# Altium footprint library Semiconductors.PcbLib: 22 footprints (part 1 of 2)
Each footprint in its own frame and in the unit in brackets; x right, y up, seen from the top. Pads: shape width x height; smd on the part's side, far side on the other; paste and mask are expansions set on the pad; w line width, h text height; cw(c..) or ccw(c..) is an arc to the next point about the centre after c.
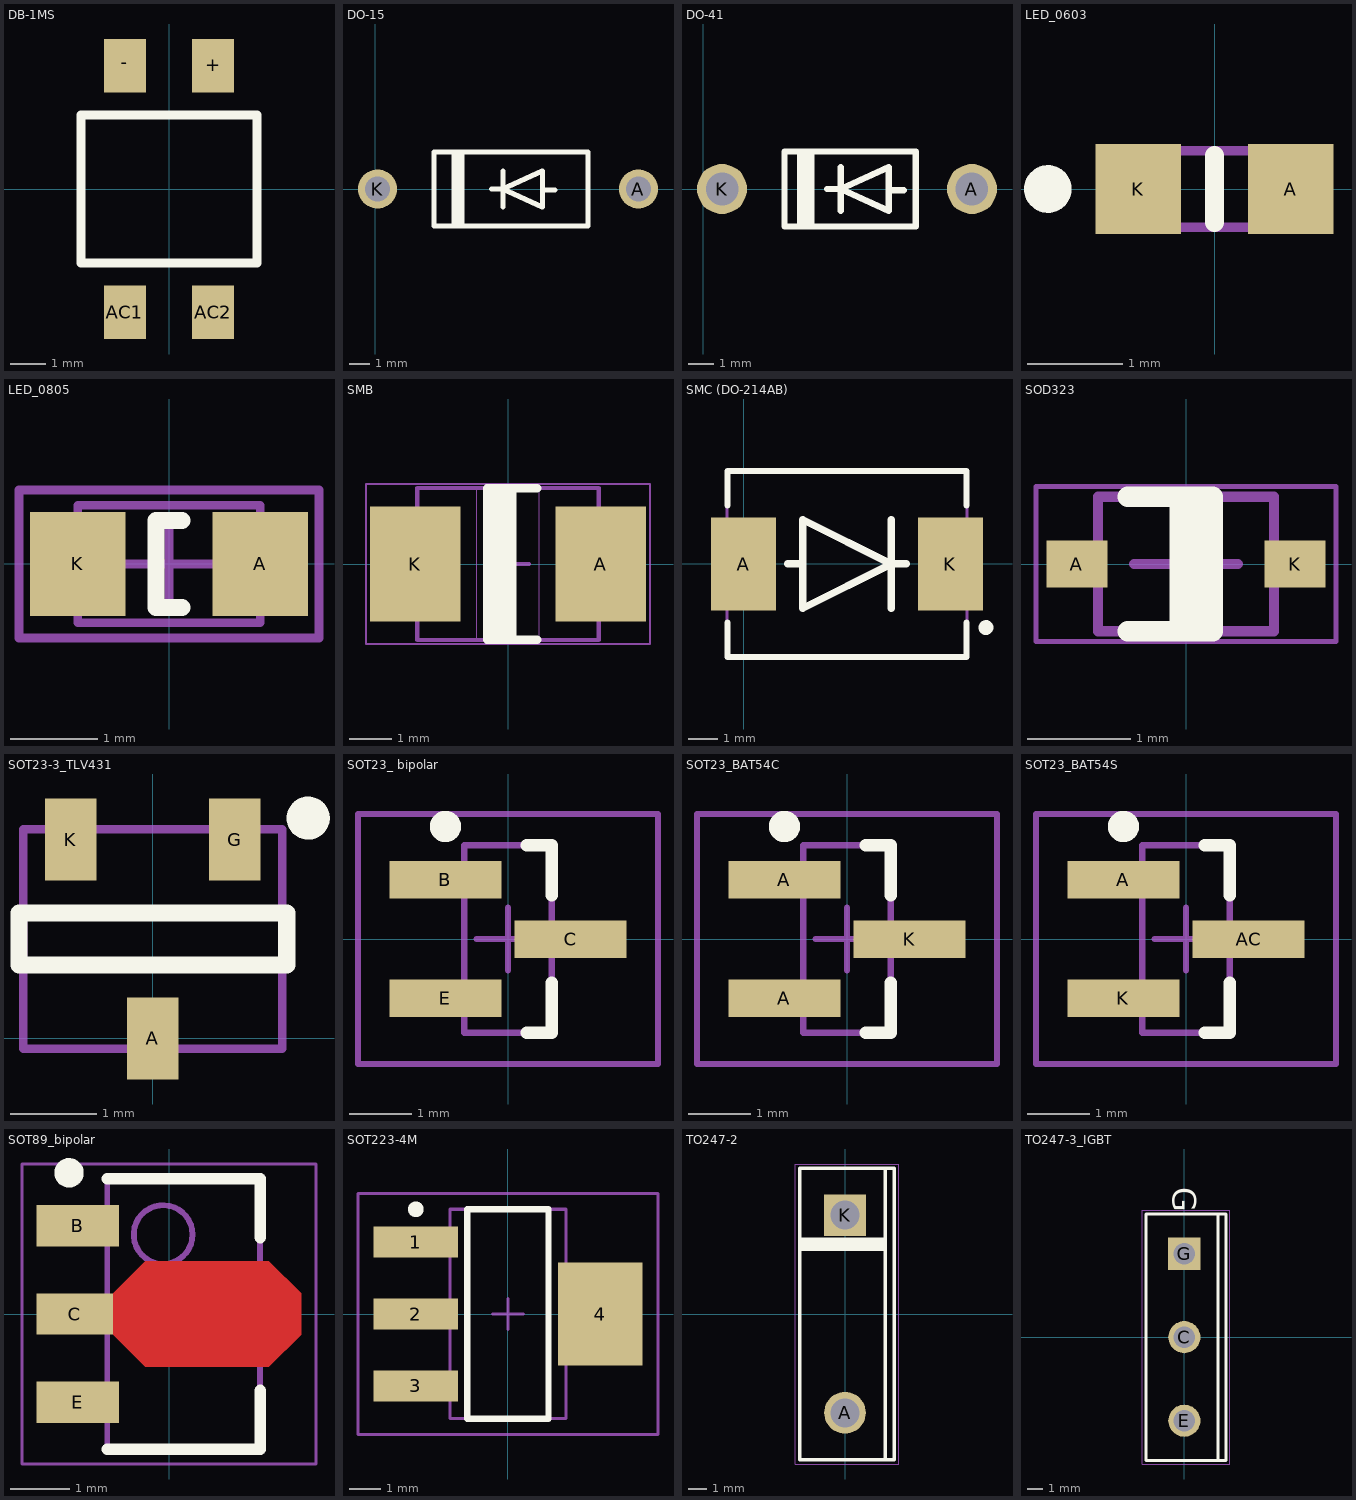
[diagram p0: the footprints below, top view; thin cyan lines are the x and y axes]

## DB-1MS [mm]
pads (4):
  rect 1.2x1.52 smd: +(1.25,3.5) -(-1.25,3.5) AC1(-1.25,-3.5) AC2(1.25,-3.5)
Top Overlay:
  lines w0.254: -2.5,-2.1 2.5,-2.1 2.5,2.1 -2.5,2.1 -2.5,-2.1
3D body "User Library-DB1-MS.STEP": height 2.9, standoff 0, extent -2.45,-3.8 2.45,3.8

## DO-15 [mm]
pads (2):
  round 1.9 hole 1.2 mask+0.2: A(12.8,0) K(0.1,0)
Top Overlay:
  lines w0.254: 3.825,-1.8 3.825,1.8 ; 4,-1.8 4,1.8 ; 4.2,-1.8 4.2,1.8 ; 5.65,0 6.2,0 ; 6.2,0.875 6.2,-0.875 6.2,0 ; 8.125,-0.05 8.725,-0.05 ; 6.2,0 8.125,-0.875 8.125,0.875 6.2,0 ; 2.85,-1.8 2.85,1.8 10.35,1.8 10.35,-1.8 2.85,-1.8
3D body "User Library-DO-15-3.STEP": height 5.62, standoff 0, extent -0.314,-1.815 13.3,1.825

## DO-41 [mm]
pads (2):
  round 2 hole 1.3 mask+0.2: A(10.75,0) K(0.75,0)
Top Overlay:
  lines w0.254: 3.875,-1.45 3.875,1.45 ; 4.1,-1.5 4.1,1.4 ; 4.325,-1.45 4.325,1.45 ; 4.95,0 5.5,0 ; 5.5,0.875 5.5,-0.875 5.5,0 ; 7.425,-0.05 8.025,-0.05 ; 5.5,0 7.425,-0.875 7.425,0.875 5.5,0 ; 3.25,-1.5 3.25,1.5 8.5,1.5 8.5,-1.5 3.25,-1.5
3D body "User Library-DO-41 10mm.STEP": height 4.36, standoff -1, extent 0.325,-1.362 11.185,1.362

## LED_0603 [mm]
pads (2):
  rect 0.9x0.95 smd: A(0.8,0) K(-0.8,0)
Top Overlay:
  circle w0.25: c-1.75,0 r0.125
  lines w0.2: 0,-0.35 0,0.35
Mechanical 1:
  lines w0.1: -0.8,-0.4 -0.8,0.4 0.8,0.4 0.8,-0.4 -0.8,-0.4
3D body "User Library-SMD LED 0603.step": height 0.38, standoff -0.01, extent -0.8,-0.4 0.8,0.4

## LED_0805 [mm] "Chip LED, 2-Leads, Body 2.0x1.3mm, IPC Medium Density"
height 0.8
pads (2):
  rect 1.1x1.2 smd: A(1.05,0) K(-1.05,0)
Top Overlay:
  lines w0.2: 0.15,-0.5 -0.15,-0.5 -0.15,0.5 0.15,0.5
Mechanical 13:
  lines w0.1: -1.05,-0.675 1.05,-0.675 1.05,0.675 -1.05,0.675 -1.05,-0.675
Mechanical 15:
  lines w0.1: -0.5,0 0.5,0 ; 0,-0.5 0,0.5 ; -1.725,-0.85 1.725,-0.85 1.725,0.85 -1.725,0.85 -1.725,-0.85
3D body "WL-SMCW_0805_LED.stp": height 0.68, standoff -0.02, extent -1,-0.625 1,0.625

## SMB [mm] "SMB, 2-Leads, Body 4.33x3.625mm, Height 2.47mm"
height 2.47
pads (2):
  rect 2.159x2.743 smd: A(2.21,0) K(-2.21,0)
Top Overlay:
  rectangle: -0.5,-1.78 0.2,1.78
  lines w0.2: -0.5,-1.813 0.7,-1.813 ; -0.5,-1.78 -0.5,1.78 ; -0.5,1.813 0.7,1.813
Mechanical 13:
  lines w0.01: -0.75,-1.813 -0.75,1.813 ; 0.75,-1.813 0.75,1.813
  lines w0.1: -2.165,-1.813 -2.165,1.813 2.165,1.813 2.165,-1.813 -2.165,-1.813
Mechanical 15:
  lines w0.05: -3.39,-1.913 -3.39,1.913 3.39,1.913 3.39,-1.913 -3.39,-1.913
  lines w0.1: -0.5,0 0.5,0 ; 0,-0.5 0,0.5
3D body: height 2.47, standoff 0.35, extent -2.165,-1.813 -0.75,1.813
3D body: height 2.47, standoff 0.35, extent 0.75,-1.813 2.165,1.813
3D body: height 2.47, standoff 0.05, extent -0.75,-1.813 0.75,1.813

## SMC (DO-214AB) [mm]
pads (2):
  rect 2.2x3.15 smd: A(0,0) K(7,0)
Top Overlay:
  circle w0.25: c8.2,-2.15 r0.125
  lines w0.2: -0.55,-1.975 -0.55,-3.15 7.55,-3.15 7.55,-1.975 ; -0.55,1.975 -0.55,3.15 7.55,3.15 7.55,1.975
  lines w0.254: 1.5,0 2,0 ; 5,-1.5 5,1.5 ; 5.5,0 5,0 ; 5,0 2,1.5 2,-1.5 5,0
Mechanical 1:
  lines w0.1: -0.564,-3.15 7.564,-3.15 7.564,3.149 -0.564,3.149 -0.564,-3.15
3D body "User Library-DO-214AB(SMC).STEP": height 2.67, standoff 0.03, extent -0.564,-3.15 7.564,3.149

## SOD323 [mm] "SOD-323, 2-Leads, Body 1.7x1.3mm, Lead Span 2.5mm"
height 1.2
pads (2):
  rect 0.59x0.45 smd: A(-1.055,0) K(1.055,0)
Top Overlay:
  rectangle: -0.16,-0.65 0.26,0.65
  lines w0.2: -0.56,-0.65 0.26,-0.65 0.26,0.65 -0.56,0.65
Mechanical 13:
  lines w0.1: -0.85,-0.65 0.85,-0.65 0.85,0.65 -0.85,0.65 -0.85,-0.65
Mechanical 15:
  lines w0.05: -1.45,-0.75 1.45,-0.75 1.45,0.75 -1.45,0.75 -1.45,-0.75
  lines w0.1: -0.5,0 0.5,0 ; 0,-0.5 0,0.5
3D body: height 1.2, standoff 0, extent -0.85,-0.65 0.85,0.65

## SOT23-3_TLV431 [mm]
pads (3):
  rect 0.6x0.95 smd: A(0,0) G(0.95,2.3) K(-0.95,2.3)
Top Overlay:
  circle w0.25: c1.8,2.55 r0.125
  lines w0.2: -1.55,0.85 -1.55,1.45 1.55,1.45 1.55,0.85 -1.55,0.85
Mechanical 1:
  lines w0.1: -1.5,-0.121 -1.5,2.421 1.5,2.421 1.5,-0.121 -1.5,-0.121
3D body "User Library-SOT-23-3-1.STEP": height 1.1, standoff 0, extent -1.5,-0.121 1.5,2.421

## SOT23_ bipolar [mm] "SOT23, 3-Leads, Body 2.9x1.3mm, Pitch 0.95mm, Lead Span 2.5mm, IPC Low Density"
height 1.1
pads (3):
  rect 1.8x0.6 smd: B(-1,0.95) C(1,0) E(-1,-0.95)
Top Overlay:
  circle w0.25: c-1,1.8 r0.125
  lines w0.2: 0.3,-1.5 0.7,-1.5 0.7,-0.7 ; 0.3,1.5 0.7,1.5 0.7,0.7
Mechanical 13:
  lines w0.1: -0.7,-1.5 0.7,-1.5 0.7,1.5 -0.7,1.5 -0.7,-1.5
Mechanical 15:
  lines w0.1: -0.5,0 0.5,0 ; 0,-0.5 0,0.5 ; -2.4,-2 2.4,-2 2.4,2 -2.4,2 -2.4,-2
3D body: height 1.1, standoff 0, extent -0.7,-1.5 0.7,1.5

## SOT23_BAT54C [mm] "SOT23, 3-Leads, Body 2.9x1.3mm, Pitch 0.95mm, Lead Span 2.5mm, IPC Low Density"
height 1.1
pads (3):
  rect 1.8x0.6 smd: A(-1,-0.95) A(-1,0.95) K(1,0)
Top Overlay:
  circle w0.25: c-1,1.8 r0.125
  lines w0.2: 0.3,-1.5 0.7,-1.5 0.7,-0.7 ; 0.3,1.5 0.7,1.5 0.7,0.7
Mechanical 13:
  lines w0.1: -0.7,-1.5 0.7,-1.5 0.7,1.5 -0.7,1.5 -0.7,-1.5
Mechanical 15:
  lines w0.1: -0.5,0 0.5,0 ; 0,-0.5 0,0.5 ; -2.4,-2 2.4,-2 2.4,2 -2.4,2 -2.4,-2
3D body: height 1.1, standoff 0, extent -0.7,-1.5 0.7,1.5

## SOT23_BAT54S [mm] "SOT23, 3-Leads, Body 2.9x1.3mm, Pitch 0.95mm, Lead Span 2.5mm, IPC Low Density"
height 1.1
pads (3):
  rect 1.8x0.6 smd: A(-1,0.95) AC(1,0) K(-1,-0.95)
Top Overlay:
  circle w0.25: c-1,1.8 r0.125
  lines w0.2: 0.3,-1.5 0.7,-1.5 0.7,-0.7 ; 0.3,1.5 0.7,1.5 0.7,0.7
Mechanical 13:
  lines w0.1: -0.7,-1.5 0.7,-1.5 0.7,1.5 -0.7,1.5 -0.7,-1.5
Mechanical 15:
  lines w0.1: -0.5,0 0.5,0 ; 0,-0.5 0,0.5 ; -2.4,-2 2.4,-2 2.4,2 -2.4,2 -2.4,-2
3D body: height 1.1, standoff 0, extent -0.7,-1.5 0.7,1.5

## SOT89_bipolar [mm] "SOT89, 3-Leads, Body 4.5x2.5 mm, Pitch 1.5 mm, IPC Medium Density"
height 1.6
pads (3):
  rect 1.4x0.7 smd: B(-1.55,1.5) E(-1.55,-1.5)
  rect 1.3x0.7 smd: C(-1.6,0)
Top Layer:
  region: -0.95,0.35 -0.4,0.9 1.7,0.9 2.25,0.35 2.25,-0.35 1.7,-0.9 -0.4,-0.9 -0.95,-0.35
Top Overlay:
  circle w0.25: c-1.7,2.4 r0.125
  lines w0.2: -1.05,-2.3 1.55,-2.3 1.55,-1.3 ; -1.05,2.3 1.55,2.3 1.55,1.3
Mechanical 13:
  circle w0.1: c-0.1,1.35 r0.5
  lines w0.1: -1.05,-2.3 1.55,-2.3 1.55,2.3 -1.05,2.3 -1.05,-2.3
Mechanical 15:
  lines w0.05: -2.5,-2.55 2.5,-2.55 2.5,2.55 -2.5,2.55 -2.5,-2.55
  lines w0.1: -0.25,0 0.75,0 ; 0.25,-0.5 0.25,0.5
3D body: height 1.6, standoff 0, extent -1.05,-2.3 1.55,2.3

## SOT223-4M [mm] "SOT223, 4-Leads, Body 6.5x3.5mm, Pitch 2.3mm, Lead Span 7mm, IPC Low Density"
height 1.8
pads (4):
  rect 2.7x1 smd: 1(-2.95,2.3) 2(-2.95,0) 3(-2.95,-2.3)
  rect 2.7x3.3 smd: 4(2.95,0)
Top Overlay:
  circle w0.25: c-2.95,3.35 r0.125
  lines w0.2: -1.3,-3.35 -1.3,3.35 1.3,3.35 1.3,-3.35 -1.3,-3.35
Mechanical 13:
  lines w0.1: -1.85,-3.35 -1.85,3.35 1.85,3.35 1.85,-3.35 -1.85,-3.35
Mechanical 15:
  lines w0.1: -0.5,0 0.5,0 ; 0,-0.5 0,0.5 ; -4.8,-3.85 -4.8,3.85 4.8,3.85 4.8,-3.85 -4.8,-3.85
3D body: height 1.8, standoff 0, extent -1.85,-3.35 1.85,3.35

## TO247-2 [mm] "FM, 3-Leads, Body 15.865x5.03mm, Pitch 5.44mm"
height 25.57
pads (2):
  round 2.3 hole 1.6: A(0,-5.45)
  rect 2.3x2.3 hole 1.6: K(0,5.45)
Top Overlay:
  lines w0.2: 2.21,-8.05 2.21,8.05 ; -2.49,-8.05 -2.49,8.05 2.71,8.05 2.71,-8.05 -2.49,-8.05
  lines w0.254: -2.4,3.6 2.1,3.6 2,3.7 -2.3,3.7 -2.3,3.9 2.1,3.9 2.1,4.1 -2.4,4.1
Mechanical 13:
  lines w0.1: 2.71,-8.025 2.71,8.025 ; 2.71,-8.025 -2.49,-8.025 -2.49,8.025 2.71,8.025 ; 2.71,-8.025 2.71,8.025
Mechanical 15:
  lines w0.05: -2.74,-8.275 2.96,-8.275 2.96,8.275 -2.74,8.275 -2.74,-8.275
3D body: height 25.57, standoff 21.22, extent 2.71,-6.825 2.71,6.825
3D body: height 19.78, standoff 19.42, extent 2.71,-6.825 2.71,-1.8
3D body: height 19.78, standoff 19.42, extent 2.71,1.8 2.71,6.825
3D body: height 19.42, standoff 19.07, extent 2.71,-6.825 2.71,-1.8
3D body: height 19.42, standoff 19.07, extent 2.71,1.8 2.71,6.825
3D body: height 20.11, standoff 19.77, extent 2.71,-6.825 2.71,-1.765
3D body: height 20.11, standoff 19.77, extent 2.71,1.765 2.71,6.825
3D body: height 19.07, standoff 18.73, extent 2.71,-6.825 2.71,-1.765
3D body: height 19.07, standoff 18.73, extent 2.71,1.765 2.71,6.825
3D body: height 20.43, standoff 20.11, extent 2.71,-6.825 2.71,-1.663
3D body: height 20.43, standoff 20.11, extent 2.71,1.663 2.71,6.825
3D body: height 18.74, standoff 18.42, extent 2.71,-6.825 2.71,-1.663
3D body: height 18.74, standoff 18.42, extent 2.71,1.663 2.71,6.825
3D body: height 20.7, standoff 20.42, extent 2.71,-6.825 2.71,-1.497
3D body: height 20.7, standoff 20.42, extent 2.71,1.497 2.71,6.825
3D body: height 18.42, standoff 18.15, extent 2.71,-6.825 2.71,-1.497
3D body: height 18.42, standoff 18.15, extent 2.71,1.497 2.71,6.825
3D body: height 20.92, standoff 20.69, extent 2.71,-6.825 2.71,-1.273
3D body: height 20.92, standoff 20.69, extent 2.71,1.273 2.71,6.825
3D body: height 18.15, standoff 17.92, extent 2.71,-6.825 2.71,-1.273
3D body: height 18.15, standoff 17.92, extent 2.71,1.273 2.71,6.825
3D body: height 21.09, standoff 20.92, extent 2.71,-6.825 2.71,-1
3D body: height 21.09, standoff 20.92, extent 2.71,1 2.71,6.825
3D body: height 17.93, standoff 17.76, extent 2.71,-6.825 2.71,-1
3D body: height 17.93, standoff 17.76, extent 2.71,1 2.71,6.825
3D body: height 21.19, standoff 21.08, extent 2.71,-6.825 2.71,-0.689
3D body: height 21.19, standoff 21.08, extent 2.71,0.689 2.71,6.825
3D body: height 17.76, standoff 17.65, extent 2.71,-6.825 2.71,-0.689
3D body: height 17.76, standoff 17.65, extent 2.71,0.689 2.71,6.825
3D body: height 21.22, standoff 21.19, extent 2.71,-6.825 2.71,-0.351
3D body: height 21.22, standoff 21.19, extent 2.71,0.351 2.71,6.825
3D body: height 17.66, standoff 17.62, extent 2.71,-6.825 2.71,-0.351
3D body: height 17.66, standoff 17.62, extent 2.71,0.351 2.71,6.825
3D body: height 17.62, standoff 8.62, extent 2.71,-6.825 2.71,6.825
3D body "User Library-User Library-TO-247_NO_CENTER_LEAD.STEP": height 32.5, standoff -3.9, extent -2.6,-7.95 2.71,7.95

## TO247-3_IGBT [mm] "FM, 3-Leads, Body 15.865x5.03mm, Pitch 5.44mm"
height 25.57
pads (3):
  round 2.1 hole 1.4: C(0,0) E(0,-5.45)
  rect 2.1x2.1 hole 1.4: G(0,5.45)
Top Overlay:
  lines w0.2: 2.21,-8.05 2.21,8.05 ; -2.49,-8.05 -2.49,8.05 2.71,8.05 2.71,-8.05 -2.49,-8.05
  text "G" at -0.762,9.779 h1.52
Mechanical 13:
  lines w0.1: 2.71,-8.025 2.71,8.025 ; 2.71,-8.025 -2.49,-8.025 -2.49,8.025 2.71,8.025 ; 2.71,-8.025 2.71,8.025
Mechanical 15:
  lines w0.05: -2.74,-8.275 2.96,-8.275 2.96,8.275 -2.74,8.275 -2.74,-8.275
  lines w0.1: -0.5,0 0.5,0 ; 0,-0.5 0,0.5
3D body: height 25.57, standoff 21.22, extent 2.71,-6.825 2.71,6.825
3D body: height 19.78, standoff 19.42, extent 2.71,-6.825 2.71,-1.8
3D body: height 19.78, standoff 19.42, extent 2.71,1.8 2.71,6.825
3D body: height 19.42, standoff 19.07, extent 2.71,-6.825 2.71,-1.8
3D body: height 19.42, standoff 19.07, extent 2.71,1.8 2.71,6.825
3D body: height 20.11, standoff 19.77, extent 2.71,-6.825 2.71,-1.765
3D body: height 20.11, standoff 19.77, extent 2.71,1.765 2.71,6.825
3D body: height 19.07, standoff 18.73, extent 2.71,-6.825 2.71,-1.765
3D body: height 19.07, standoff 18.73, extent 2.71,1.765 2.71,6.825
3D body: height 20.43, standoff 20.11, extent 2.71,-6.825 2.71,-1.663
3D body: height 20.43, standoff 20.11, extent 2.71,1.663 2.71,6.825
3D body: height 18.74, standoff 18.42, extent 2.71,-6.825 2.71,-1.663
3D body: height 18.74, standoff 18.42, extent 2.71,1.663 2.71,6.825
3D body: height 20.7, standoff 20.42, extent 2.71,-6.825 2.71,-1.497
3D body: height 20.7, standoff 20.42, extent 2.71,1.497 2.71,6.825
3D body: height 18.42, standoff 18.15, extent 2.71,-6.825 2.71,-1.497
3D body: height 18.42, standoff 18.15, extent 2.71,1.497 2.71,6.825
3D body: height 20.92, standoff 20.69, extent 2.71,-6.825 2.71,-1.273
3D body: height 20.92, standoff 20.69, extent 2.71,1.273 2.71,6.825
3D body: height 18.15, standoff 17.92, extent 2.71,-6.825 2.71,-1.273
3D body: height 18.15, standoff 17.92, extent 2.71,1.273 2.71,6.825
3D body: height 21.09, standoff 20.92, extent 2.71,-6.825 2.71,-1
3D body: height 21.09, standoff 20.92, extent 2.71,1 2.71,6.825
3D body: height 17.93, standoff 17.76, extent 2.71,-6.825 2.71,-1
3D body: height 17.93, standoff 17.76, extent 2.71,1 2.71,6.825
3D body: height 21.19, standoff 21.08, extent 2.71,-6.825 2.71,-0.689
3D body: height 21.19, standoff 21.08, extent 2.71,0.689 2.71,6.825
3D body: height 17.76, standoff 17.65, extent 2.71,-6.825 2.71,-0.689
3D body: height 17.76, standoff 17.65, extent 2.71,0.689 2.71,6.825
3D body: height 21.22, standoff 21.19, extent 2.71,-6.825 2.71,-0.351
3D body: height 21.22, standoff 21.19, extent 2.71,0.351 2.71,6.825
3D body: height 17.66, standoff 17.62, extent 2.71,-6.825 2.71,-0.351
3D body: height 17.66, standoff 17.62, extent 2.71,0.351 2.71,6.825
3D body: height 17.62, standoff 8.62, extent 2.71,-6.825 2.71,6.825
3D body: height 25.57, standoff 4.17, extent -2.49,-8.025 2.71,8.025
3D body: height 0, standoff -1.6, extent -0.31,-6.04 0.31,-4.84
3D body: height 4.17, standoff 0, extent -0.31,-6.52 0.31,-4.36
3D body: height 0, standoff -1.6, extent -0.31,-0.6 0.31,0.6
3D body: height 4.17, standoff 0, extent -0.31,-1.08 0.31,1.08
3D body: height 0, standoff -1.6, extent -0.31,4.84 0.31,6.04
3D body: height 4.17, standoff 0, extent -0.31,4.36 0.31,6.52